# Altium footprint library Capacitors.PcbLib: 24 footprints (part 1 of 2)
Each footprint in its own frame and in the unit in brackets; x right, y up, seen from the top. Pads: shape width x height; smd on the part's side, far side on the other; paste and mask are expansions set on the pad; w line width, h text height; cw(c..) or ccw(c..) is an arc to the next point about the centre after c.
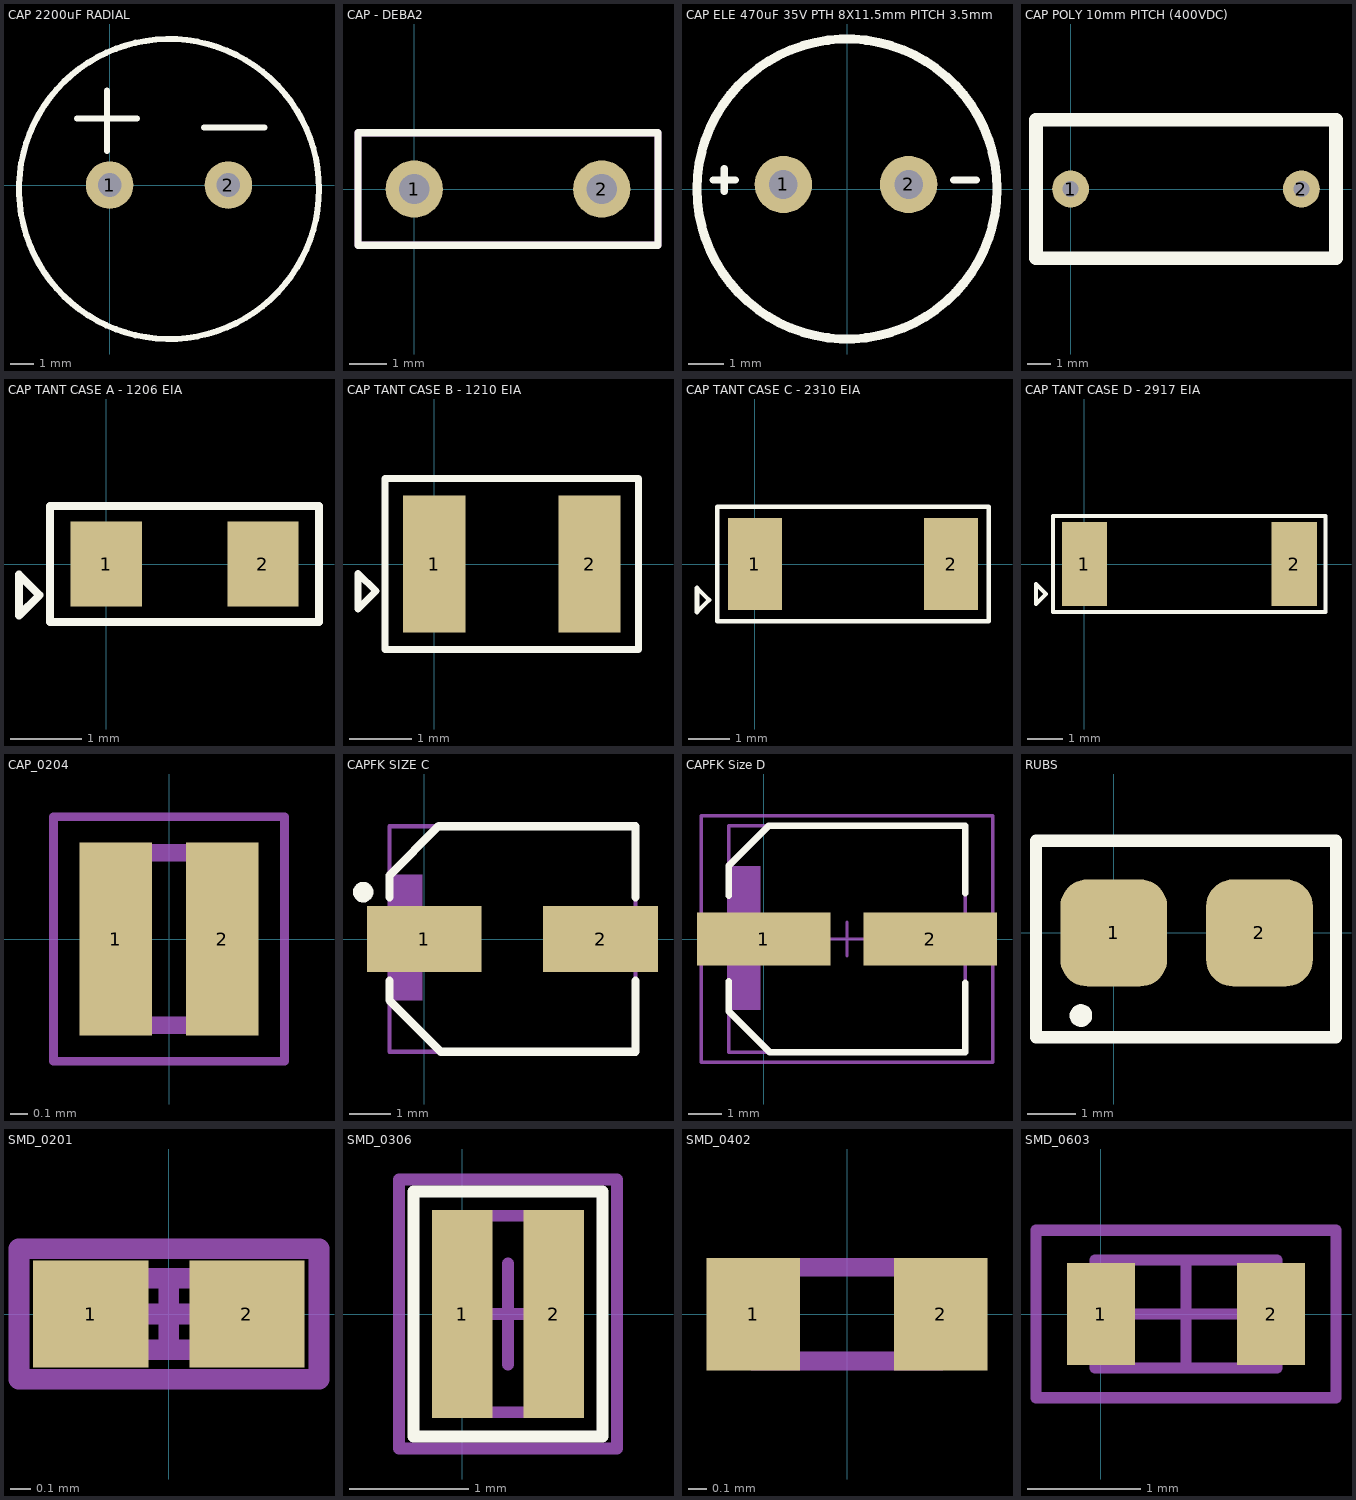
[diagram p0: the footprints below, top view; thin cyan lines are the x and y axes]

## CAP 2200uF RADIAL [mm]
pads (2):
  round 2 hole 1: 1(0,0) 2(5,0)
Top Overlay:
  circle w0.254: c2.5,-0.166 r6.321
  lines w0.254: -1.382,2.798 1.152,2.798 ; -0.116,1.446 -0.116,3.98 ; 3.98,2.428 6.514,2.428
3D body "User Library-Capacitor, Al El, Thru Mt, 2200uF, 25V - CDE #SEK222M025ST.STEP": height 25.4, standoff -28.75, extent -4.181,-6.624 9.019,6.576

## CAP - DEBA2 [mil] "High Voltage Ceramic Capacitors (250V-6.3kV)"
height 43.31
pads (2):
  round 60 hole 31.5: 1(0,0) 2(196.85,0)
Top Overlay:
  lines w7.87: -59.06,-59.06 255.91,-59.06 255.91,59.06 -59.06,59.06 -59.06,-59.06
Mechanical 13:
  lines w7.87: -59.06,-59.06 255.91,-59.06 255.91,59.06 -59.06,59.06 -59.06,-59.06
Mechanical 15:
  lines w3.94: -19.69,0 19.68,0 ; 0,-19.69 0,19.68
3D body "User Library-6mm radial ceramic disc capacitor.STEP": height 988.96, standoff -334.65, extent -18.1,-74.8 218.12,74.81

## CAP ELE 470uF 35V PTH 8X11.5mm PITCH 3.5mm [mm]
pads (2):
  round 1.6 hole 0.8: 1(-1.778,0.127) 2(1.722,0.127)
Top Overlay:
  circle w0.254: c0,0 r4.191
  lines w0.2: -3.746,0.254 -3.111,0.254 ; -3.429,-0.064 -3.429,0.572 ; 2.984,0.254 3.619,0.254
3D body "SW3dPS-224-0025.STEP": height 15, standoff -17, extent -4,-3.873 4,4.127

## CAP POLY 10mm PITCH (400VDC) [mm]
pads (2):
  round 1.6 hole 0.7: 1(0,0) 2(10,0)
Top Overlay:
  lines w0.6: -1.5,-3 -1.5,3 5.142,3 11.5,3 11.5,-3 5.142,-3 -1.5,-3
3D body "User Library-Capacitor MKT_B32591C3104 (Pitch 10mm).STEP": height 13.5, standoff -5, extent -1.495,-2.502 11.505,2.498

## CAP TANT CASE A - 1206 EIA [mm] "KEMET SERIES"
pads (2):
  rect 1x1.2 smd: 1(0,0) 2(2.2,0)
Top Overlay:
  lines w0.112: -1.225,-0.725 -1.225,-0.15 -0.937,-0.437 -1.225,-0.725 ; -0.787,-0.813 2.987,-0.813 2.987,0.813 -0.787,0.813 -0.787,-0.813

## CAP TANT CASE B - 1210 EIA [mm] "KEMET SERIES"
pads (2):
  rect 1x2.2 smd: 1(0,0) 2(2.5,0)
Top Overlay:
  lines w0.112: -1.225,-0.725 -0.937,-0.437 -1.225,-0.15 -1.225,-0.725 ; -0.787,-1.375 3.287,-1.375 3.287,1.375 -0.787,1.375 -0.787,-1.375

## CAP TANT CASE C - 2310 EIA [mm] "AVX SERIES"
pads (2):
  rect 1.3x2.2 smd: 1(0,0) 2(4.7,0)
Top Overlay:
  lines w0.112: -1.388,-1.15 -1.388,-0.575 -1.1,-0.863 -1.388,-1.15 ; -0.9,-1.375 5.6,-1.375 5.6,1.375 -0.9,1.375 -0.9,-1.375

## CAP TANT CASE D - 2917 EIA [mm] "AVX SERIES"
pads (2):
  rect 1.3x2.4 smd: 1(0,0) 2(6,0)
Top Overlay:
  lines w0.112: -1.388,-1.15 -1.388,-0.575 -1.1,-0.863 -1.388,-1.15 ; -0.9,-1.375 6.9,-1.375 6.9,1.375 -0.9,1.375 -0.9,-1.375

## CAP_0204 [mm]
pads (2):
  rect 0.42x1.12 smd: 1(-0.31,0) 2(0.31,0)
Mechanical 13:
  lines w0.1: -0.26,-0.5 -0.26,0.5 0.26,0.5 0.26,-0.5 -0.26,-0.5
Mechanical 15:
  lines w0.05: -0.67,-0.71 -0.67,0.71 0.67,0.71 0.67,-0.71 -0.67,-0.71
3D body "C0510X5R1C104M030BC.stp": height 0.35, standoff 0, extent -0.26,-0.5 0.26,0.5

## CAPFK SIZE C [mm]
height 6.1
pads (2):
  rect 2.8x1.6 smd paste-0.051 mask+0: 1(0,0) 2(4.3,0)
Top Overlay:
  circle w0.25: c-1.489,1.143 r0.125
  lines w0.2: -0.85,-1.016 -0.85,-1.496 0.404,-2.75 5.15,-2.75 5.15,-1.016 ; -0.85,1.016 -0.85,1.547 0.353,2.75 5.15,2.75 5.15,1.016
Mechanical 13:
  rectangle: -0.85,-1.499 -0.043,1.575
  lines w0.1: -0.85,-2.75 5.15,-2.75 5.15,2.75 -0.85,2.75 -0.85,-2.75
3D body "SW3dPS-capacitor size C.STEP": height 5.41, standoff -0.01, extent -0.8,-2.65 5.1,2.65

## CAPFK Size D [mm] "Aluminum Electrolytic Capacitors / Surface Mount Type / Series: FK Type: V"
height 6.1
pads (2):
  rect 4x1.6 smd paste-0.051 mask+0: 1(0,0) 2(5,0)
Top Overlay:
  lines w0.2: -1.05,-1.27 -1.05,-2.165 0.185,-3.4 6.05,-3.4 6.05,-1.321 ; -1.05,1.295 -1.05,2.191 0.16,3.4 6.05,3.4 6.05,1.372
Mechanical 13:
  rectangle: -1.05,-2.133 -0.095,2.185
  lines w0.1: -1.05,-3.4 -1.05,3.4 6.05,3.4 6.05,-3.4 -1.05,-3.4
Mechanical 15:
  lines w0.1: 2,0 3,0 ; 2.5,-0.5 2.5,0.5 ; -1.875,-3.7 6.875,-3.7 6.875,3.7 -1.875,3.7 -1.875,-3.7
3D body "SW3dPS-capacitor size D.STEP": height 5.41, standoff -0.01, extent -1,-3.3 6,3.3

## RUBS [mm]
pads (2):
  rrect50% 2.2x2.2 smd mask+0.102: 1(0,0) 2(3,0)
Top Overlay:
  lines w0.254: -0.641,-1.599 ccw(c-0.675,-1.7) -0.6,-1.625 ; -1.6,-2.15 -1.6,1.9 4.575,1.9 4.575,-2.15 -1.6,-2.15
3D body "SW3dPS-Solid Tantalum Chip CapacitorA1206.STEP": height 2.11, standoff -0.04, extent -0.992,-1.574 4.007,1.424

## SMD_0201 [mm] "General SMD 0201 footprint."
height 0.3
pads (2):
  rect 0.56x0.52 smd paste-0.051 mask+0: 1(-0.38,0) 2(0.38,0)
Mechanical 13:
  lines w0.1: -0.325,-0.175 -0.325,0.175 0.325,0.175 0.325,-0.175 -0.325,-0.175
Mechanical 15:
  lines w0.1: -0.175,0 0.175,0 ; 0,-0.175 0,0.175 ; -0.729,-0.318 -0.729,0.318 0.731,0.318 0.731,-0.318 -0.729,-0.318
3D body "User Library-cap_0201.STEP": height 0.3, standoff 0, extent -0.3,-0.15 0.3,0.15

## SMD_0306 [mm] "General SMD 0306 footprint"
height 0.8
pads (2):
  rect 0.508x1.75 smd paste-0.051 mask+0: 1(0,0) 2(0.77,0)
Top Overlay:
  lines w0.102: -0.408,-1.029 -0.408,1.029 1.177,1.029 1.177,-1.029 -0.408,-1.029
Mechanical 13:
  lines w0.1: -0.04,-0.825 -0.04,0.825 0.81,0.825 0.81,-0.825 -0.04,-0.825
Mechanical 15:
  lines w0.1: -0.04,0 0.81,0 ; 0.385,-0.425 0.385,0.425 ; -0.53,-1.13 1.299,-1.13 1.299,1.13 -0.53,1.13 -0.53,-1.13
3D body "User Library-Capacitor 0306.STEP": height 0.6, standoff 0, extent -0.02,-0.8 0.79,0.8

## SMD_0402 [mm]
height 0.5
pads (2):
  rect 0.5x0.6 smd paste-0.051 mask+0: 1(-0.5,0) 2(0.5,0)
Mechanical 13:
  lines w0.1: -0.5,-0.25 -0.5,0.25 0.5,0.25 0.5,-0.25 -0.5,-0.25
3D body "User Library-CAPC1005X06.STEP": height 0.6, standoff 0, extent -0.5,-0.25 0.5,0.25

## SMD_0603 [mm] "General SMD 0603 footprint"
height 0.5
pads (2):
  rect 0.6x0.9 smd paste-0.051 mask+0: 1(0,0) 2(1.5,0)
Mechanical 13:
  lines w0.1: -0.05,-0.475 1.55,-0.475 1.55,0.475 -0.05,0.475 -0.05,-0.475
Mechanical 15:
  lines w0.1: 0.275,0 1.225,0 ; 0.75,-0.475 0.75,0.475 ; -0.571,-0.737 -0.571,0.737 2.071,0.737 2.071,-0.737 -0.571,-0.737
3D body "User Library-0603(1608M) Cap.STEP": height 0.79, standoff 0, extent -0.25,-0.394 1.75,0.394